# Altium footprint library PCB - OPTOSENSOR - VISHAY CNY70.PcbLib: 1 footprints
Each footprint in its own frame and in the unit in brackets; x right, y up, seen from the top. Pads: shape width x height; smd on the part's side, far side on the other; paste and mask are expansions set on the pad; w line width, h text height; cw(c..) or ccw(c..) is an arc to the next point about the centre after c.
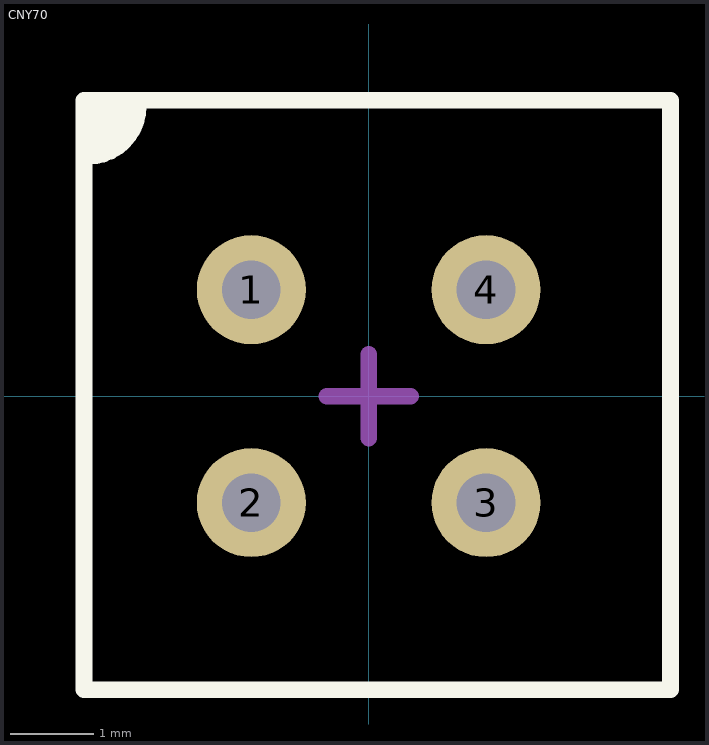
[diagram p0: the footprint, top view; thin cyan lines are the x and y axes]

## CNY70 [mm]
height 6
pads (4):
  round 1.3 hole 0.7: 1(-1.4,1.27) 2(-1.4,-1.27) 3(1.4,-1.27) 4(1.4,1.27)
Top Overlay:
  region: -3.349,3.46 -2.749,3.46 -2.749,3.34 -2.841,3.12 -3.009,2.951 -3.23,2.86 -3.349,2.86
  lines w0.2: -3.349,2.86 ccw(c-3.349,3.46) -2.749,3.46 ; -3.395,-3.5 -3.395,3.53 3.6,3.53 3.6,-3.5 -3.395,-3.5
  text "." at -1.595,2.53 h5
Top Component Center:
  lines w0.2: -0.5,0 0.5,0 ; 0,-0.5 0,0.5
Top Assembly:
  lines w0.1: -3.395,-3.5 3.6,-3.5 3.6,3.53 -3.395,3.53 -3.395,-3.5
Top Courtyard:
  lines w0.05: -3.395,-3.53 -3.395,3.48 3.6,3.48 3.6,-3.53 -3.395,-3.53
3D body "User Library-cny 70 mem_cgr.step": height 6.02, standoff -3.05, extent -3.4,-3.5 3.6,3.5